# Altium footprint library XBeeLight.PcbLib: 42 footprints (part 1 of 3)
Each footprint in its own frame and in the unit in brackets; x right, y up, seen from the top. Pads: shape width x height; smd on the part's side, far side on the other; paste and mask are expansions set on the pad; w line width, h text height; cw(c..) or ccw(c..) is an arc to the next point about the centre after c.
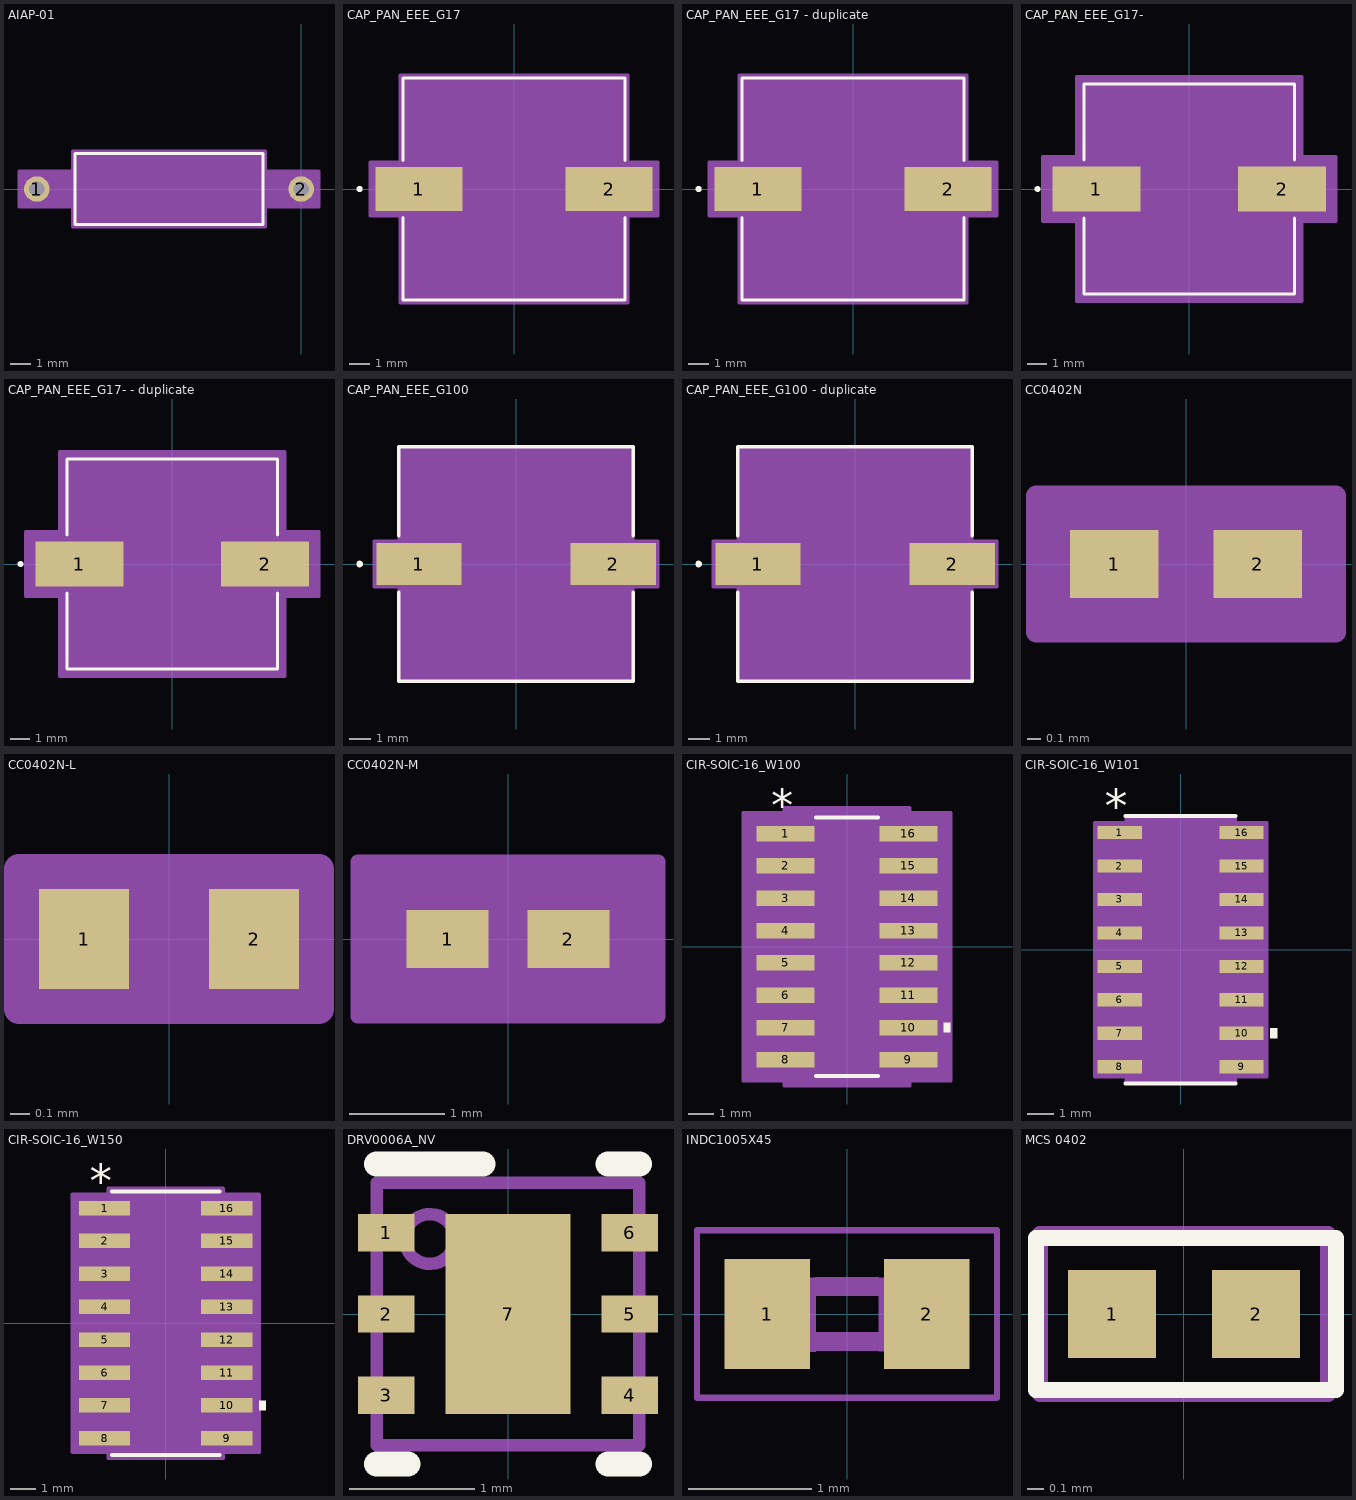
[diagram p0: the footprints below, top view; thin cyan lines are the x and y axes]

## AIAP-01 [mil]
pads (2):
  round 50 hole 30 mask+0: 1(-520,0) 2(0,0)
Top Overlay:
  lines w6: -445,-70 -75,-70 -75,70 -445,70 -445,-70
Mechanical 13:
  lines w1: -520,0 -440,0 ; -80,0 0,0 ; -440,-65 -80,-65 -80,65 -440,65 -440,-65
Mechanical 15:
  region: -450,-35 -555,-35 -555,35 -450,35 -450,75 -70,75 -70,35 35,35 35,-35 -70,-35 -70,-75 -450,-75
  lines w6: -555,-35 -555,35 -450,35 -450,75 -70,75 -70,35 35,35 35,-35 -70,-35 -70,-75 -450,-75 -450,-35 -555,-35
3D body: height 10, standoff 0, extent 0,0 10,10

## CAP_PAN_EEE_G17 [mil]
pads (2):
  rect 166x83 smd paste+0 mask+0: 1(-181,0) 2(181,0)
Top Overlay:
  circle w6: c-294,0 r3
  lines w6: -211.5,-54.6 -211.5,-211.5 211.5,-211.5 211.5,-54.6 ; -211.5,54.6 -211.5,211.5 211.5,211.5 211.5,54.6
Mechanical 13:
  circle w0: c-186.5,0 r3
  lines w1: -206.5,-103.25 -103.25,-206.5 ; -206.5,103.25 -103.25,206.5 ; -206.5,-206.5 206.5,-206.5 206.5,206.5 -206.5,206.5 -206.5,-206.5
Mechanical 15:
  region: -216.5,-51.5 -274,-51.5 -274,51.5 -216.5,51.5 -216.5,216.5 216.5,216.5 216.5,51.5 274,51.5 274,-51.5 216.5,-51.5 216.5,-216.5 -216.5,-216.5
  lines w6: -274,-51.5 -274,51.5 -216.5,51.5 -216.5,216.5 216.5,216.5 216.5,51.5 274,51.5 274,-51.5 216.5,-51.5 216.5,-216.5 -216.5,-216.5 -216.5,-51.5 -274,-51.5
3D body: height 10, standoff 0, extent 0,0 10,10

## CAP_PAN_EEE_G17 - duplicate [mil]
pads (2):
  rect 166x83 smd paste+0 mask+0: 1(-181,0) 2(181,0)
Top Overlay:
  circle w6: c-294,0 r3
  lines w6: -211.5,-54.6 -211.5,-211.5 211.5,-211.5 211.5,-54.6 ; -211.5,54.6 -211.5,211.5 211.5,211.5 211.5,54.6
Mechanical 13:
  circle w0: c-186.5,0 r3
  lines w1: -206.5,-103.25 -103.25,-206.5 ; -206.5,103.25 -103.25,206.5 ; -206.5,-206.5 206.5,-206.5 206.5,206.5 -206.5,206.5 -206.5,-206.5
Mechanical 15:
  region: -216.5,-51.5 -274,-51.5 -274,51.5 -216.5,51.5 -216.5,216.5 216.5,216.5 216.5,51.5 274,51.5 274,-51.5 216.5,-51.5 216.5,-216.5 -216.5,-216.5
  lines w6: -274,-51.5 -274,51.5 -216.5,51.5 -216.5,216.5 216.5,216.5 216.5,51.5 274,51.5 274,-51.5 216.5,-51.5 216.5,-216.5 -216.5,-216.5 -216.5,-51.5 -274,-51.5
3D body: height 10, standoff 0, extent 0,0 10,10

## CAP_PAN_EEE_G17- [mil]
pads (2):
  rect 177x91 smd paste+0 mask+0: 1(-186.5,0) 2(186.5,0)
Top Overlay:
  circle w6: c-305,0 r3
  lines w6: -211.5,-58.6 -211.5,-211.5 211.5,-211.5 211.5,-58.6 ; -211.5,58.6 -211.5,211.5 211.5,211.5 211.5,58.6
Mechanical 13:
  circle w0: c-186.5,0 r3
  lines w1: -206.5,-103.25 -103.25,-206.5 ; -206.5,103.25 -103.25,206.5 ; -206.5,-206.5 206.5,-206.5 206.5,206.5 -206.5,206.5 -206.5,-206.5
Mechanical 15:
  region: -226.5,-65.5 -295,-65.5 -295,65.5 -226.5,65.5 -226.5,226.5 226.5,226.5 226.5,65.5 295,65.5 295,-65.5 226.5,-65.5 226.5,-226.5 -226.5,-226.5
  lines w6: -295,-65.5 -295,65.5 -226.5,65.5 -226.5,226.5 226.5,226.5 226.5,65.5 295,65.5 295,-65.5 226.5,-65.5 226.5,-226.5 -226.5,-226.5 -226.5,-65.5 -295,-65.5
3D body: height 10, standoff 0, extent 0,0 10,10

## CAP_PAN_EEE_G17- - duplicate [mil]
pads (2):
  rect 177x91 smd paste+0 mask+0: 1(-186.5,0) 2(186.5,0)
Top Overlay:
  circle w6: c-305,0 r3
  lines w6: -211.5,-58.6 -211.5,-211.5 211.5,-211.5 211.5,-58.6 ; -211.5,58.6 -211.5,211.5 211.5,211.5 211.5,58.6
Mechanical 13:
  circle w0: c-186.5,0 r3
  lines w1: -206.5,-103.25 -103.25,-206.5 ; -206.5,103.25 -103.25,206.5 ; -206.5,-206.5 -206.5,206.5 206.5,206.5 206.5,-206.5 -206.5,-206.5
Mechanical 15:
  region: -226.5,-65.5 -295,-65.5 -295,65.5 -226.5,65.5 -226.5,226.5 226.5,226.5 226.5,65.5 295,65.5 295,-65.5 226.5,-65.5 226.5,-226.5 -226.5,-226.5
  lines w6: -295,-65.5 -226.5,-65.5 -226.5,-226.5 226.5,-226.5 226.5,-65.5 295,-65.5 295,65.5 226.5,65.5 226.5,226.5 -226.5,226.5 -226.5,65.5 -295,65.5 -295,-65.5
3D body: height 10, standoff 0, extent 0,0 10,10

## CAP_PAN_EEE_G100 [mil]
pads (2):
  rect 154x75 smd paste+0 mask+0: 1(-175,0) 2(175,0)
Top Overlay:
  circle w6: c-282,0 r3
  lines w6: -211.5,-50.6 -211.5,-211.5 211.5,-211.5 211.5,-50.6 ; -211.5,50.6 -211.5,211.5 211.5,211.5 211.5,50.6
Mechanical 13:
  circle w0: c-186.5,0 r3
  lines w1: -206.5,-103.25 -103.25,-206.5 ; -206.5,103.25 -103.25,206.5 ; -206.5,-206.5 -206.5,206.5 206.5,206.5 206.5,-206.5 -206.5,-206.5
Mechanical 15:
  region: -210.5,-41.5 -256,-41.5 -256,41.5 -210.5,41.5 -210.5,210.5 210.5,210.5 210.5,41.5 256,41.5 256,-41.5 210.5,-41.5 210.5,-210.5 -210.5,-210.5
  lines w6: -256,-41.5 -210.5,-41.5 -210.5,-210.5 210.5,-210.5 210.5,-41.5 256,-41.5 256,41.5 210.5,41.5 210.5,210.5 -210.5,210.5 -210.5,41.5 -256,41.5 -256,-41.5
3D body: height 10, standoff 0, extent 0,0 10,10

## CAP_PAN_EEE_G100 - duplicate [mil]
pads (2):
  rect 154x75 smd paste+0 mask+0: 1(-175,0) 2(175,0)
Top Overlay:
  circle w6: c-282,0 r3
  lines w6: -211.5,-50.6 -211.5,-211.5 211.5,-211.5 211.5,-50.6 ; -211.5,50.6 -211.5,211.5 211.5,211.5 211.5,50.6
Mechanical 13:
  circle w0: c-186.5,0 r3
  lines w1: -206.5,-103.25 -103.25,-206.5 ; -206.5,103.25 -103.25,206.5 ; -206.5,-206.5 206.5,-206.5 206.5,206.5 -206.5,206.5 -206.5,-206.5
Mechanical 15:
  region: -210.5,-41.5 -256,-41.5 -256,41.5 -210.5,41.5 -210.5,210.5 210.5,210.5 210.5,41.5 256,41.5 256,-41.5 210.5,-41.5 210.5,-210.5 -210.5,-210.5
  lines w6: -256,-41.5 -256,41.5 -210.5,41.5 -210.5,210.5 210.5,210.5 210.5,41.5 256,41.5 256,-41.5 210.5,-41.5 210.5,-210.5 -210.5,-210.5 -210.5,-41.5 -256,-41.5
3D body: height 10, standoff 0, extent 0,0 10,10

## CC0402N [mil]
pads (2):
  rect 26x20 smd paste+0 mask+0: 1(-21,0) 2(21,0)
Mechanical 13:
  lines w1: -20,-10 -20,10 ; -20,-10 20,-10 ; -20,-10 -8,-10 -8,10 -20,10 ; -20,-10 -20,10 ; -20,10 20,10 ; 20,-10 20,10 ; 20,-10 20,10 ; 20,-10 8,-10 8,10 20,10
Mechanical 15:
  region: 44,-20 -44,-20 -44,20 44,20
  lines w6: -44,-20 44,-20 44,20 -44,20 -44,-20
3D body: height 10, standoff 0, extent 0,0 10,10

## CC0402N-L [mil]
pads (2):
  rect 18x20 smd paste+0 mask+0: 1(-17,0) 2(17,0)
Mechanical 13:
  lines w1: -20,-10 -20,10 ; -20,-10 20,-10 ; -20,-10 -8,-10 -8,10 -20,10 ; -20,-10 -20,10 ; -20,10 20,10 ; 20,-10 20,10 ; 20,-10 20,10 ; 20,-10 8,-10 8,10 20,10
Mechanical 15:
  region: 30,-14 -30,-14 -30,14 30,14
  lines w6: -30,-14 30,-14 30,14 -30,14 -30,-14
3D body: height 10, standoff 0, extent 0,0 10,10

## CC0402N-M [mil]
pads (2):
  rect 34x24 smd paste+0 mask+0: 1(-25,0) 2(25,0)
Mechanical 13:
  lines w1: -20,-10 -20,10 ; -20,-10 20,-10 ; -20,-10 -8,-10 -8,10 -20,10 ; -20,-10 -20,10 ; -20,10 20,10 ; 20,-10 20,10 ; 20,-10 20,10 ; 20,-10 8,-10 8,10 20,10
Mechanical 15:
  region: 62,-32 -62,-32 -62,32 62,32
  lines w6: -62,-32 62,-32 62,32 -62,32 -62,-32
3D body: height 10, standoff 0, extent 0,0 10,10

## CIR-SOIC-16_W100 [mil]
pads (16):
  rect 90x24 smd paste+0 mask+0: 1(-95,175) 2(-95,125) 3(-95,75) 4(-95,25) 5(-95,-25) 6(-95,-75) 7(-95,-125) 8(-95,-175) 9(95,-175) 10(95,-125) 11(95,-75) 12(95,-25) 13(95,25) 14(95,75) 15(95,125) 16(95,175)
Top Overlay:
  region: 150,-117.5 160,-117.5 160,-132.5 150,-132.5
  lines w6: -48.38,-200 48.38,-200 ; -48.38,200 48.38,200
  text "*" at -117.5,194 h50
Mechanical 13:
  lines w0: -12,195 ccw(c0,195) 12,195
  lines w1: -118,-185 -77,-185 -77,-165 -118,-165 -118,-185 ; -118,-135 -77,-135 -77,-115 -118,-115 -118,-135 ; -118,-85 -77,-85 -77,-65 -118,-65 -118,-85 ; -118,-35 -77,-35 -77,-15 -118,-15 -118,-35 ; -118,15 -77,15 -77,35 -118,35 -118,15 ; -118,65 -77,65 -77,85 -118,85 -118,65 ; -118,115 -77,115 -77,135 -118,135 -118,115 ; -118,165 -77,165 -77,185 -118,185 -118,165 ; -77,-195 -77,195 77,195 77,-195 -77,-195 ; 77,-185 118,-185 118,-165 77,-165 77,-185 ; 77,-135 118,-135 118,-115 77,-115 77,-135 ; 77,-85 118,-85 118,-65 77,-65 77,-85 ; 77,-35 118,-35 118,-15 77,-15 77,-35 ; 77,15 118,15 118,35 77,35 77,15 ; 77,65 118,65 118,85 77,85 77,65 ; 77,115 118,115 118,135 77,135 77,115 ; 77,165 118,165 118,185 77,185 77,165
  text "*" at -74.5,142 h50
Mechanical 15:
  region: -97,-207 -160,-207 -160,207 -97,207 -97,215 97,215 97,207 160,207 160,-207 97,-207 97,-215 -97,-215
  lines w6: -160,-207 -97,-207 -97,-215 97,-215 97,-207 160,-207 160,207 97,207 97,215 -97,215 -97,207 -160,207 -160,-207
3D body: height 10, standoff 0, extent 0,0 10,10

## CIR-SOIC-16_W101 [mil]
pads (16):
  rect 66x20 smd paste+0 mask+0: 1(-91,175) 2(-91,125) 3(-91,75) 4(-91,25) 5(-91,-25) 6(-91,-75) 7(-91,-125) 8(-91,-175) 9(91,-175) 10(91,-125) 11(91,-75) 12(91,-25) 13(91,25) 14(91,75) 15(91,125) 16(91,175)
Top Overlay:
  region: 134,-117.5 144,-117.5 144,-132.5 134,-132.5
  lines w6: -82,-200 82,-200 ; -82,200 82,200
  text "*" at -113.5,190 h50
Mechanical 13:
  lines w0: -12,195 ccw(c0,195) 12,195
  lines w1: -118,-185 -118,-165 -77,-165 -77,-185 -118,-185 ; -118,-135 -118,-115 -77,-115 -77,-135 -118,-135 ; -118,-85 -118,-65 -77,-65 -77,-85 -118,-85 ; -118,-35 -118,-15 -77,-15 -77,-35 -118,-35 ; -118,15 -118,35 -77,35 -77,15 -118,15 ; -118,65 -118,85 -77,85 -77,65 -118,65 ; -118,115 -118,135 -77,135 -77,115 -118,115 ; -118,165 -118,185 -77,185 -77,165 -118,165 ; -77,-195 77,-195 77,195 -77,195 -77,-195 ; 77,-185 77,-165 118,-165 118,-185 77,-185 ; 77,-135 77,-115 118,-115 118,-135 77,-135 ; 77,-85 77,-65 118,-65 118,-85 77,-85 ; 77,-35 77,-15 118,-15 118,-35 77,-35 ; 77,15 77,35 118,35 118,15 77,15 ; 77,65 77,85 118,85 118,65 77,65 ; 77,115 77,135 118,135 118,115 77,115 ; 77,165 77,185 118,185 118,165 77,165
  text "*" at -74.5,142 h50
Mechanical 15:
  region: -81,-189 -128,-189 -128,189 -81,189 -81,199 81,199 81,189 128,189 128,-189 81,-189 81,-199 -81,-199
  lines w6: -128,-189 -128,189 -81,189 -81,199 81,199 81,189 128,189 128,-189 81,-189 81,-199 -81,-199 -81,-189 -128,-189
3D body: height 10, standoff 0, extent 0,0 10,10

## CIR-SOIC-16_W150 [mil]
pads (16):
  rect 78x22 smd paste+0 mask+0: 1(-93,175) 2(-93,125) 3(-93,75) 4(-93,25) 5(-93,-25) 6(-93,-75) 7(-93,-125) 8(-93,-175) 9(93,-175) 10(93,-125) 11(93,-75) 12(93,-25) 13(93,25) 14(93,75) 15(93,125) 16(93,175)
Top Overlay:
  region: 142,-117.5 152,-117.5 152,-132.5 142,-132.5
  lines w6: -82,-200 82,-200 ; -82,200 82,200
  text "*" at -115.5,192 h50
Mechanical 13:
  lines w0: -12,195 ccw(c0,195) 12,195
  lines w1: -118,-185 -77,-185 -77,-165 -118,-165 -118,-185 ; -118,-135 -77,-135 -77,-115 -118,-115 -118,-135 ; -118,-85 -77,-85 -77,-65 -118,-65 -118,-85 ; -118,-35 -77,-35 -77,-15 -118,-15 -118,-35 ; -118,15 -77,15 -77,35 -118,35 -118,15 ; -118,65 -77,65 -77,85 -118,85 -118,65 ; -118,115 -77,115 -77,135 -118,135 -118,115 ; -118,165 -77,165 -77,185 -118,185 -118,165 ; -77,-195 -77,195 77,195 77,-195 -77,-195 ; 77,-185 118,-185 118,-165 77,-165 77,-185 ; 77,-135 118,-135 118,-115 77,-115 77,-135 ; 77,-85 118,-85 118,-65 77,-65 77,-85 ; 77,-35 118,-35 118,-15 77,-15 77,-35 ; 77,15 118,15 118,35 77,35 77,15 ; 77,65 118,65 118,85 77,85 77,65 ; 77,115 118,115 118,135 77,135 77,115 ; 77,165 118,165 118,185 77,185 77,165
  text "*" at -74.5,142 h50
Mechanical 15:
  region: -87,-196 -142,-196 -142,196 -87,196 -87,205 87,205 87,196 142,196 142,-196 87,-196 87,-205 -87,-205
  lines w6: -142,-196 -87,-196 -87,-205 87,-205 87,-196 142,-196 142,196 87,196 87,205 -87,205 -87,196 -142,196 -142,-196
3D body: height 10, standoff 0, extent 0,0 10,10

## DRV0006A_NV [mm]
pads (7):
  rect 0.45x0.3 smd paste+0 mask+0.051: 1(-0.975,0.65) 2(-0.975,0) 3(-0.975,-0.65) 4(0.975,-0.65) 5(0.975,0) 6(0.975,0.65)
  rect 1x1.6 smd paste-0.5 mask+0.051: 7(0,0)
Top Overlay:
  lines w0.2: -1.05,-1.2 -0.8,-1.2 ; -1.05,1.2 -0.2,1.2 ; 0.8,-1.2 1.05,-1.2 ; 0.8,1.2 1.05,1.2
Top Paste:
  region: -0.499,0.139 -0.5,0.149 -0.5,0.751 -0.499,0.761 -0.496,0.77 -0.492,0.778 -0.486,0.786 -0.478,0.792 -0.47,0.796 -0.461,0.799 -0.451,0.8 0.451,0.8 0.461,0.799 0.47,0.796 0.478,0.792 0.486,0.786 0.492,0.778 0.496,0.77 0.499,0.761 0.5,0.751 0.5,0.149 0.499,0.139 0.496,0.13 0.492,0.122 0.486,0.114 0.478,0.108 0.47,0.104 0.461,0.101 0.451,0.1 -0.451,0.1 -0.461,0.101 -0.47,0.104 -0.478,0.108 -0.486,0.114 -0.492,0.122 -0.496,0.13
  region: -0.499,-0.761 -0.5,-0.751 -0.5,-0.149 -0.499,-0.139 -0.496,-0.13 -0.492,-0.122 -0.486,-0.114 -0.478,-0.108 -0.47,-0.104 -0.461,-0.101 -0.451,-0.1 0.451,-0.1 0.461,-0.101 0.47,-0.104 0.478,-0.108 0.486,-0.114 0.492,-0.122 0.496,-0.13 0.499,-0.139 0.5,-0.149 0.5,-0.751 0.499,-0.761 0.496,-0.77 0.492,-0.778 0.486,-0.786 0.478,-0.792 0.47,-0.796 0.461,-0.799 0.451,-0.8 -0.451,-0.8 -0.461,-0.799 -0.47,-0.796 -0.478,-0.792 -0.486,-0.786 -0.492,-0.778 -0.496,-0.77
Mechanical 13:
  circle w0.1: c-0.625,0.6 r0.2
  lines w0.1: -1.05,-1.05 1.05,-1.05 1.05,1.05 -1.05,1.05 -1.05,-1.05
  text ".Designator" at -0.9,-0.5 h1.27
3D body "User Library-wson6-drv.step": height 0.8, standoff 0, extent -1.01,-1 1.01,1

## INDC1005X45 [mm]
pads (2):
  rect 0.7x0.9 smd: 1(-0.65,0) 2(0.65,0)
Mechanical 4:
  region: 0.26,0.295 0.559,0.295 0.559,-0.306 0.26,-0.306
  region: -0.556,0.295 -0.254,0.295 -0.254,-0.306 -0.556,-0.306
  region: 0.26,0.295 0.559,0.295 0.559,-0.306 0.26,-0.306
  region: -0.556,0.295 -0.254,0.295 -0.254,-0.306 -0.556,-0.306
  lines w0.152: -0.245,-0.224 0.245,-0.224 -0.245,-0.224 ; -0.245,0.224 0.245,0.224 -0.245,0.224
Mechanical 16:
  lines w0.051: -1.223,-0.683 -1.223,0.683 1.223,0.683 1.223,-0.683 -1.223,-0.683

## MCS 0402 [mm]
pads (2):
  rect 0.55x0.55 smd: 1(-0.45,0) 2(0.45,0)
Top Overlay:
  lines w0.1: -0.925,-0.475 0.95,-0.475 0.95,0.475 -0.925,0.475 -0.925,-0.475
Mechanical 29:
  lines w0.1: -0.9,-0.5 -0.9,0.5 0.9,0.5 0.9,0.25 0.9,-0.25 0.9,-0.5 -0.9,-0.5
  text ".Designator" at -0.4,-0.2 h0.51
3D body "MCS 0402.stp": height 0.32, standoff 0, extent -0.5,-0.25 0.5,0.25